# Altium footprint library IC集成芯片封装库.PcbLib: 9 footprints
Each footprint in its own frame and in the unit in brackets; x right, y up, seen from the top. Pads: shape width x height; smd on the part's side, far side on the other; paste and mask are expansions set on the pad; w line width, h text height; cw(c..) or ccw(c..) is an arc to the next point about the centre after c.
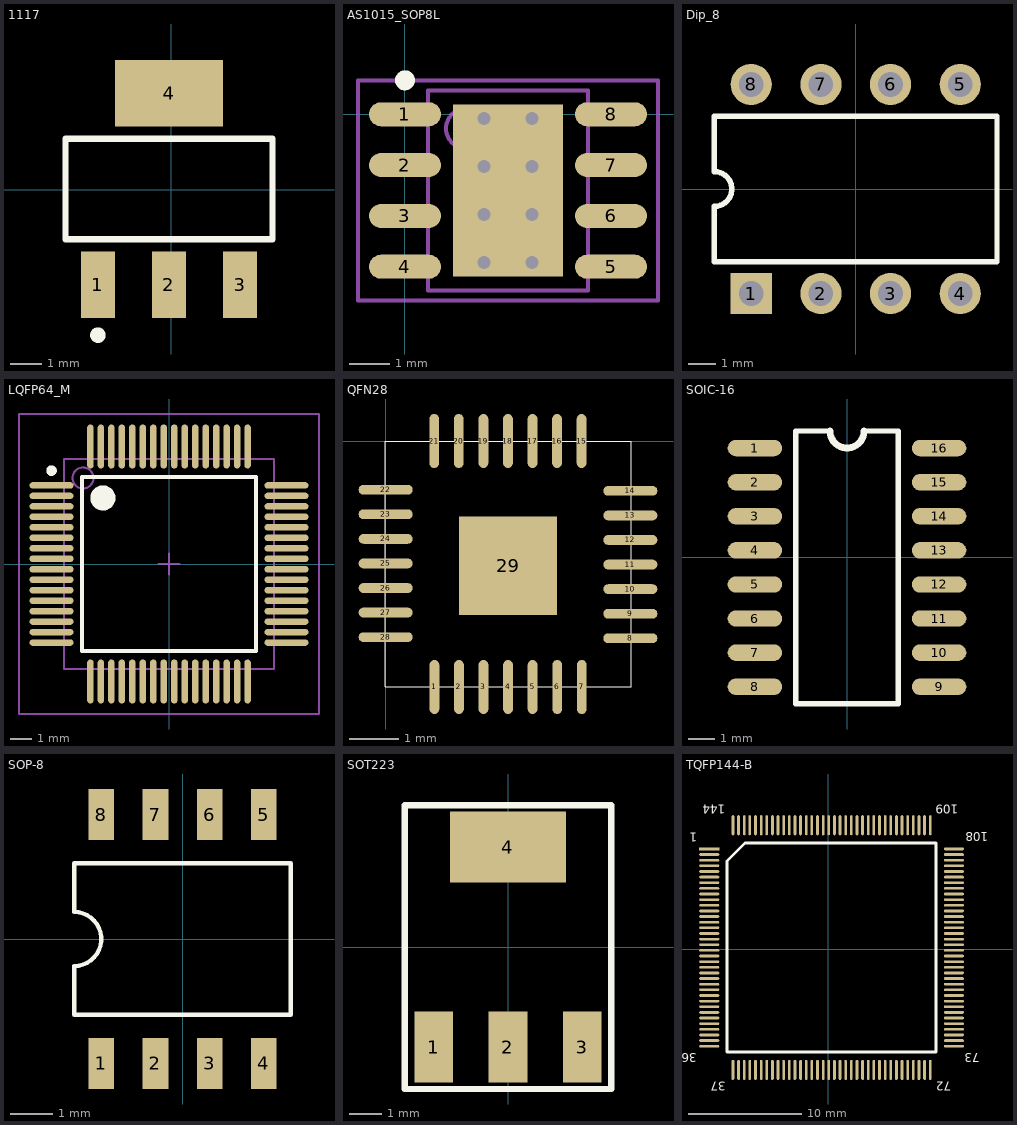
[diagram p0: the footprints below, top view; thin cyan lines are the x and y axes]

## 1117 [mm]
pads (4):
  rect 1.1x2.15 smd: 1(-2.379,-3.074) 2(-0.079,-3.074) 3(2.221,-3.074)
  rect 3.5x2.15 smd: 4(-0.079,3.126)
Top Overlay:
  circle w0.25: c-2.379,-4.699 r0.125
  lines w0.2: -3.429,-1.599 3.271,-1.599 3.271,1.651 -3.429,1.651 -3.429,-1.599

## AS1015_SOP8L [mm] "SOP, 8-Leads, Body 5.0x4.0mm (max), Pitch 1.27mm, IPC Medium Density"
height 1.75
pads (9):
  oval 1.8x0.6 smd: 1(0,0) 2(0,-1.27) 3(0,-2.54) 4(0,-3.81) 5(5.15,-3.81) 6(5.15,-2.54) 7(5.15,-1.27) 8(5.15,0)
  rect 2.75x4.3 smd: " "(2.575,-1.905)
via 3.175,-3.705 diameter 0.66 hole 0.33
via 1.975,-3.705 diameter 0.66 hole 0.33
via 3.175,-2.505 diameter 0.66 hole 0.33
via 1.975,-2.505 diameter 0.66 hole 0.33
via 3.175,-1.305 diameter 0.66 hole 0.33
via 1.975,-1.305 diameter 0.66 hole 0.33
via 3.175,-0.105 diameter 0.66 hole 0.33
via 1.975,-0.105 diameter 0.66 hole 0.33
Top Overlay:
  circle w0.25: c0,0.85 r0.125
Mechanical 13:
  circle w0.1: c1.525,-0.355 r0.5
  lines w0.1: 0.575,-4.405 4.575,-4.405 4.575,0.595 0.575,0.595 0.575,-4.405
Mechanical 15:
  lines w0.1: 2.075,-1.905 3.075,-1.905 ; 2.575,-2.405 2.575,-1.405 ; -1.175,-4.655 6.325,-4.655 6.325,0.845 -1.175,0.845 -1.175,-4.655
3D body: height 1.75, standoff 0.19, extent 0.575,-4.405 4.575,0.595

## Dip_8 [mm]
pads (8):
  rect 1.5x1.5 hole 0.9: 1(-3.81,-3.81)
  round 1.5 hole 0.9: 2(-1.27,-3.81) 3(1.27,-3.81) 4(3.81,-3.81) 5(3.81,3.81) 6(1.27,3.81) 7(-1.27,3.81) 8(-3.81,3.81)
Top Overlay:
  lines w0.2: -5.15,-2.65 5.15,-2.65 5.15,2.65 -5.15,2.65 -5.15,0.635 cw(c-5.15,0) -5.15,-0.635 -5.15,-2.65

## LQFP64_M [mm]
pads (64):
  oval 2.1x0.3 smd: 1(-5.6,3.75) 2(-5.6,3.25) 3(-5.6,2.75) 4(-5.6,2.25) 5(-5.6,1.75) 6(-5.6,1.25) 7(-5.6,0.75) 8(-5.6,0.25) 9(-5.6,-0.25) 10(-5.6,-0.75) 11(-5.6,-1.25) 12(-5.6,-1.75) 13(-5.6,-2.25) 14(-5.6,-2.75) 15(-5.6,-3.25) 16(-5.6,-3.75) 33(5.6,-3.75) 34(5.6,-3.25) 35(5.6,-2.75) 36(5.6,-2.25) 37(5.6,-1.75) 38(5.6,-1.25) 39(5.6,-0.75) 40(5.6,-0.25) 41(5.6,0.25) 42(5.6,0.75) 43(5.6,1.25) 44(5.6,1.75) 45(5.6,2.25) 46(5.6,2.75) 47(5.6,3.25) 48(5.6,3.75)
  oval 0.3x2.1 smd: 17(-3.75,-5.6) 18(-3.25,-5.6) 19(-2.75,-5.6) 20(-2.25,-5.6) 21(-1.75,-5.6) 22(-1.25,-5.6) 23(-0.75,-5.6) 24(-0.25,-5.6) 25(0.25,-5.6) 26(0.75,-5.6) 27(1.25,-5.6) 28(1.75,-5.6) 29(2.25,-5.6) 30(2.75,-5.6) 31(3.25,-5.6) 32(3.75,-5.6) 49(3.75,5.6) 50(3.25,5.6) 51(2.75,5.6) 52(2.25,5.6) 53(1.75,5.6) 54(1.25,5.6) 55(0.75,5.6) 56(0.25,5.6) 57(-0.25,5.6) 58(-0.75,5.6) 59(-1.25,5.6) 60(-1.75,5.6) 61(-2.25,5.6) 62(-2.75,5.6) 63(-3.25,5.6) 64(-3.75,5.6)
Top Overlay:
  circle w0.6: c-3.15,3.15 r0.3
  circle w0.25: c-5.6,4.45 r0.125
  lines w0.2: -4.15,-4.15 4.15,-4.15 4.15,4.15 -4.15,4.15 -4.15,-4.15
Mechanical 13:
  circle w0.1: c-4.1,4.1 r0.5
  lines w0.1: -5,-5 5,-5 5,5 -5,5 -5,-5
Mechanical 15:
  lines w0.1: -0.5,0 0.5,0 ; 0,-0.5 0,0.5 ; -7.15,-7.15 7.15,-7.15 7.15,7.15 -7.15,7.15 -7.15,-7.15
3D body: height 1.6, standoff 0, extent -5,-5 5,5

## QFN28 [mm]
pads (29):
  oval 0.2x1.1 smd: 1(0.991,-5.004) 2(1.491,-5.004) 3(1.991,-5.004) 4(2.491,-5.004) 5(2.991,-5.004) 6(3.491,-5.004) 7(3.991,-5.004) 15(3.988,0) 16(3.488,0) 17(2.988,0) 18(2.488,0) 19(1.988,0) 20(1.488,0) 21(0.988,0)
  oval 1.1x0.2 smd: 8(4.978,-4.013) 9(4.978,-3.513) 10(4.978,-3.013) 11(4.978,-2.513) 12(4.978,-2.013) 13(4.978,-1.513) 14(4.978,-1.013) 22(0,-0.991) 23(0,-1.491) 24(0,-1.991) 25(0,-2.491) 26(0,-2.991) 27(0,-3.491) 28(0,-3.991)
  rect 2x2 smd: 29(2.489,-2.54)
Top Overlay:
  lines w0.025: -0.006,-5.003 -0.006,-0.003 4.994,-0.003 4.994,-5.003 -0.006,-5.003

## SOIC-16 [mil]
pads (16):
  oval 80x24 smd: 1(-135,160) 2(-135,110) 3(-135,60) 4(-135,10) 5(-135,-40) 6(-135,-90) 7(-135,-140) 8(-135,-190) 9(135,-190) 10(135,-140) 11(135,-90) 12(135,-40) 13(135,10) 14(135,60) 15(135,110) 16(135,160)
Top Overlay:
  lines w7.87: -25,185 -75,185 -75,-215 75,-215 75,185 25,185
  lines w10: -25,185 ccw(c0,185) 25,185

## SOP-8 [mm]
height 1.75
pads (8):
  rect 0.6x1.2 smd: 1(-1.905,-2.921) 2(-0.635,-2.921) 3(0.635,-2.921) 4(1.905,-2.921) 5(1.905,2.921) 6(0.635,2.921) 7(-0.635,2.921) 8(-1.905,2.921)
Top Overlay:
  lines w0.1: -2.54,-1.778 2.54,-1.778 2.54,1.778 -2.54,1.778 -2.54,0.635 cw(c-2.54,0) -2.54,-0.635 -2.54,-1.778

## SOT223 [mm]
pads (4):
  rect 1.2x2.2 smd: 1(-2.3,-3.1) 2(0,-3.1) 3(2.3,-3.1)
  rect 3.6x2.2 smd: 4(0,3.1)
Top Overlay:
  lines w0.2: -3.2,-4.4 -3.2,4.4 3.2,4.4 3.2,-4.4 -3.2,-4.4
3D body: height -0.38, standoff -2.08, extent -3.035,-3.635 3.465,3.325

## TQFP144-B [mil]
pads (144):
  rect 70x9.5 smd: 1(-414.89,350.06)
  oval 70x9.5 smd: 2(-414.89,330.37) 3(-414.89,310.69) 4(-414.89,291) 5(-414.89,271.32) 6(-414.89,251.63) 7(-414.89,231.95) 8(-414.89,212.26) 9(-414.89,192.58) 10(-414.89,172.89) 11(-414.89,153.21) 12(-414.89,133.52) 13(-414.89,113.84) 14(-414.89,94.15) 15(-414.89,74.47) 16(-414.89,54.78) 17(-414.89,35.1) 18(-414.89,15.41) 19(-414.89,-4.27) 20(-414.89,-23.96) 21(-414.89,-43.64) 22(-414.89,-63.33) 23(-414.89,-83.01) 24(-414.89,-102.7) 25(-414.89,-122.38) 26(-414.89,-142.07) 27(-414.89,-161.75) 28(-414.89,-181.44) 29(-414.89,-201.12) 30(-414.89,-220.81) 31(-414.89,-240.49) 32(-414.89,-260.18) 33(-414.89,-279.86) 34(-414.89,-299.55) 35(-414.89,-319.23) 36(-414.89,-338.92) 73(439.44,-338.92) 74(439.44,-319.23) 75(439.44,-299.55) 76(439.44,-279.86) 77(439.44,-260.18) 78(439.44,-240.5) 79(439.44,-220.81) 80(439.44,-201.12) 81(439.44,-181.44) 82(439.44,-161.75) 83(439.44,-142.07) 84(439.44,-122.38) 85(439.44,-102.7) 86(439.44,-83.01) 87(439.44,-63.33) 88(439.44,-43.64) 89(439.44,-23.96) 90(439.44,-4.27) 91(439.44,15.41) 92(439.44,35.1) 93(439.44,54.78) 94(439.44,74.47) 95(439.44,94.15) 96(439.44,113.84) 97(439.44,133.52) 98(439.44,153.21) 99(439.44,172.89) 100(439.44,192.58) 101(439.44,212.26) 102(439.44,231.95) 103(439.44,251.63) 104(439.44,271.32) 105(439.44,291) 106(439.44,310.69) 107(439.44,330.37) 108(439.44,350.06)
  oval 9.5x70 smd: 37(-332.21,-421.6) 38(-312.53,-421.6) 39(-292.84,-421.6) 40(-273.16,-421.6) 41(-253.47,-421.6) 42(-233.79,-421.6) 43(-214.1,-421.6) 44(-194.42,-421.6) 45(-174.73,-421.6) 46(-155.05,-421.6) 47(-135.36,-421.6) 48(-115.68,-421.6) 49(-95.99,-421.6) 50(-76.31,-421.6) 51(-56.62,-421.6) 52(-36.94,-421.6) 53(-17.25,-421.6) 54(2.43,-421.6) 55(22.12,-421.6) 56(41.8,-421.6) 57(61.49,-421.6) 58(81.17,-421.6) 59(100.86,-421.6) 60(120.54,-421.6) 61(140.23,-421.6) 62(159.91,-421.6) 63(179.6,-421.6) 64(199.28,-421.6) 65(218.97,-421.6) 66(238.65,-421.6) 67(258.34,-421.6) 68(278.02,-421.6) 69(297.71,-421.6) 70(317.39,-421.6) 71(337.08,-421.6) 72(356.76,-421.6) 109(356.76,432.73) 110(337.08,432.73) 111(317.39,432.73) 112(297.71,432.73) 113(278.02,432.73) 114(258.34,432.73) 115(238.65,432.73) 116(218.97,432.73) 117(199.28,432.73) 118(179.6,432.73) 119(159.91,432.73) 120(140.23,432.73) 121(120.54,432.73) 122(100.86,432.73) 123(81.17,432.73) 124(61.49,432.73) 125(41.8,432.73) 126(22.12,432.73) 127(2.43,432.73) 128(-17.25,432.73) 129(-36.94,432.73) 130(-56.62,432.73) 131(-76.31,432.73) 132(-95.99,432.73) 133(-115.68,432.73) 134(-135.36,432.73) 135(-155.05,432.73) 136(-174.73,432.73) 137(-194.42,432.73) 138(-214.1,432.73) 139(-233.79,432.73) 140(-253.47,432.73) 141(-273.16,432.73) 142(-292.84,432.73) 143(-312.53,432.73) 144(-332.21,432.73)
Top Overlay:
  lines w10: -352.49,-359.2 -352.49,307.93 -290.09,370.33 377.04,370.33 377.04,-359.2 -352.49,-359.2
  text "72" at 430.53,-463.32 h30
  text "1" at -457.49,405.92 h30
  text "36" at -457.71,-363.47 h30
  text "37" at -358.13,-463.06 h30
  text "73" at 529.33,-363.39 h30
  text "108" at 559.97,408.44 h30
  text "109" at 454.71,504.3 h30
  text "144" at -358.34,504.27 h30